# EAGLE library part RS275-666 (library fergs)
http://www.radioshack.com/product/index.jsp?productId=2062518
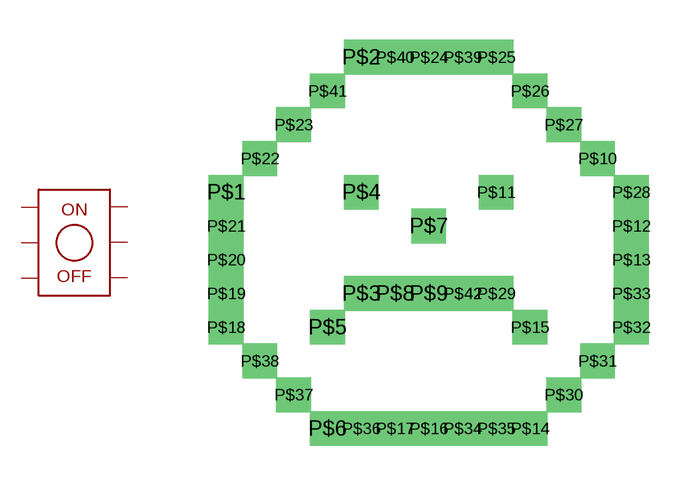
[diagram p2: symbol with the pads of CRAP; footprint CRAP]

Designator prefix -

## RS275-666  [CRAP]
P$1  A
P$2  A0
P$3  A1
P$4  B
P$5  B0
P$6  B1

## Footprint CRAP (pad centres in mm)
This package exists only for those items which are a schematic only.... ewww
drill 0.8 square: P$1 -16.51,7.62; P$2 -11.43,12.7; P$3 -11.43,3.81; P$4 -11.43,7.62; P$5 -12.7,2.54; P$6 -12.7,-1.27; P$7 -8.89,6.35; P$8 -10.16,3.81; P$9 -8.89,3.81; P$10 -2.54,8.89; P$11 -6.35,7.62; P$12 -1.27,6.35; P$13 -1.27,5.08; P$14 -5.08,-1.27; P$15 -5.08,2.54; P$16 -8.89,-1.27; P$17 -10.16,-1.27; P$18 -16.51,2.54; P$19 -16.51,3.81; P$20 -16.51,5.08; P$21 -16.51,6.35; P$22 -15.24,8.89; P$23 -13.97,10.16; P$24 -8.89,12.7; P$25 -6.35,12.7; P$26 -5.08,11.43; P$27 -3.81,10.16; P$28 -1.27,7.62; P$29 -6.35,3.81; P$30 -3.81,0; P$31 -2.54,1.27; P$32 -1.27,2.54; P$33 -1.27,3.81; P$34 -7.62,-1.27; P$35 -6.35,-1.27; P$36 -11.43,-1.27; P$37 -13.97,0; P$38 -15.24,1.27; P$39 -7.62,12.7; P$40 -10.16,12.7; P$41 -12.7,11.43; P$42 -7.62,3.81